# Altium footprint library dpfootprint.PcbLib: 90 footprints (part 2 of 6)
Each footprint in its own frame and in the unit in brackets; x right, y up, seen from the top. Pads: shape width x height; smd on the part's side, far side on the other; paste and mask are expansions set on the pad; w line width, h text height; cw(c..) or ccw(c..) is an arc to the next point about the centre after c.
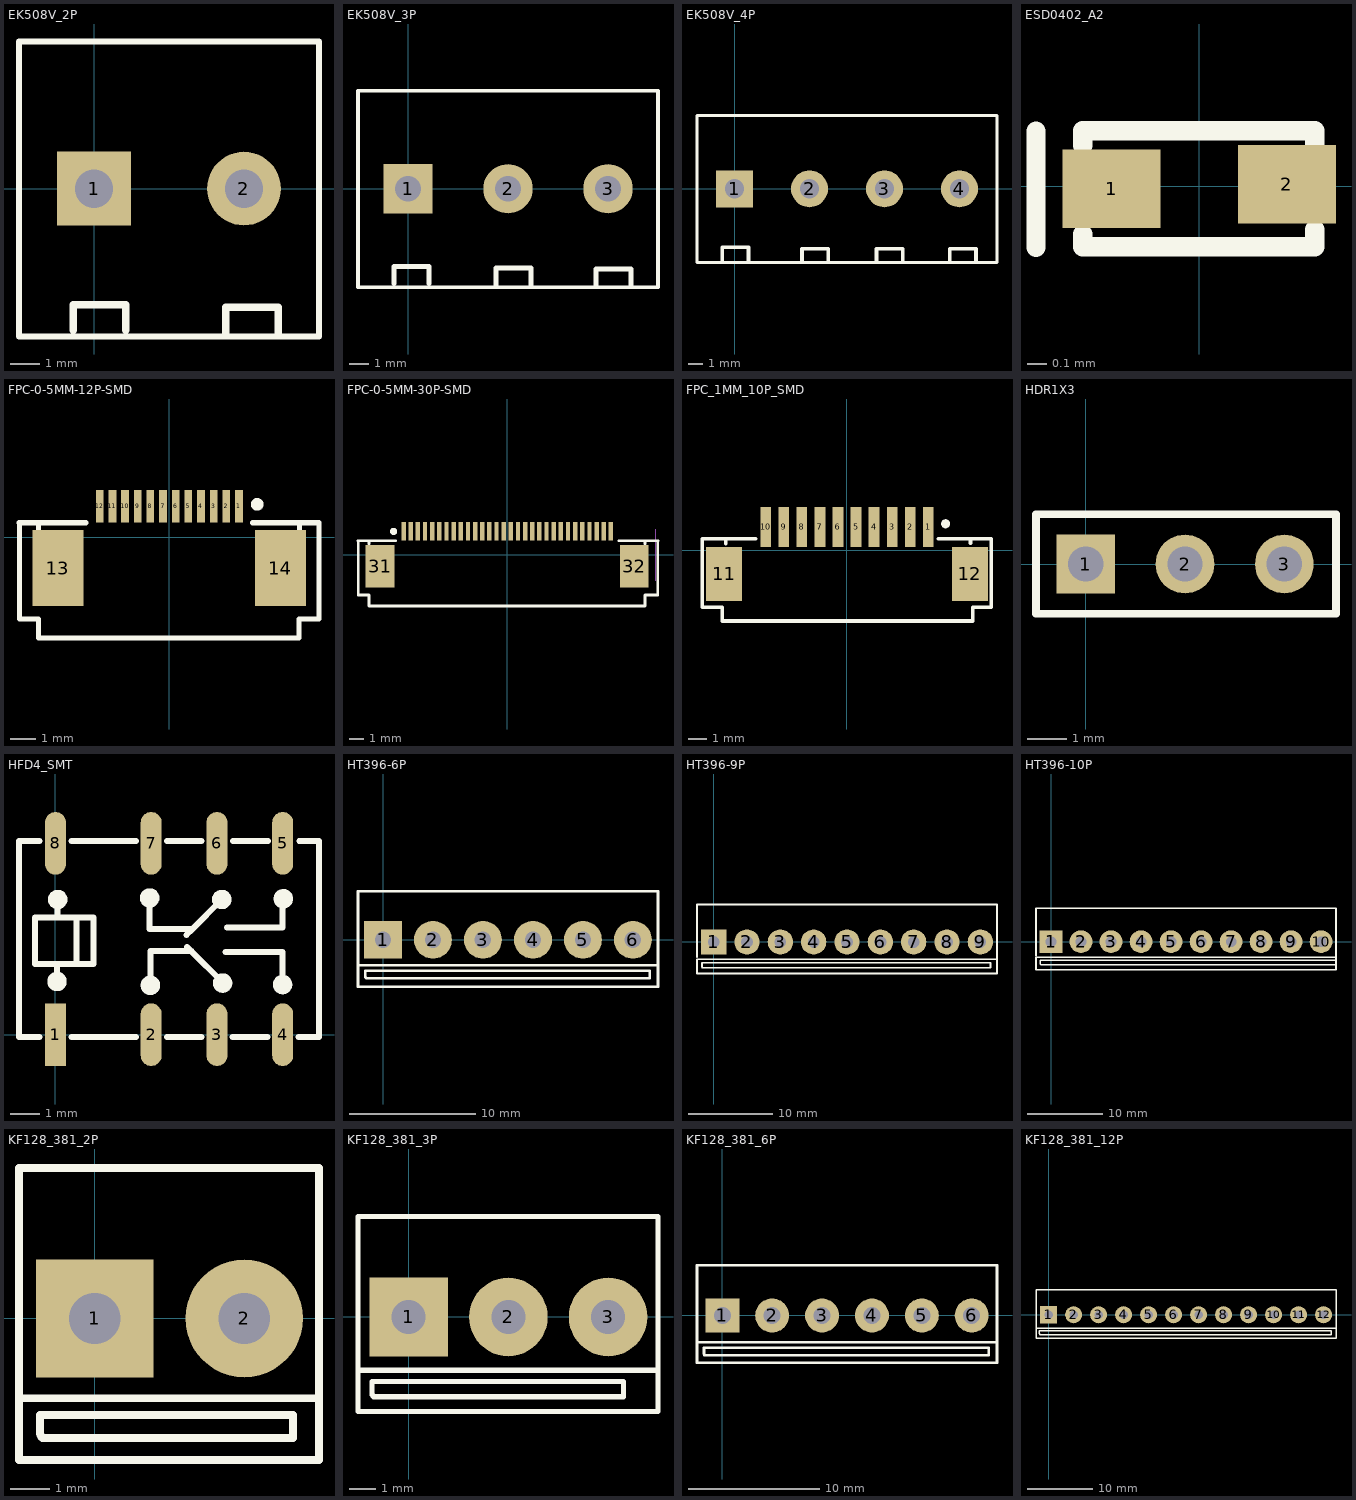
[diagram p1: the footprints below, top view; thin cyan lines are the x and y axes]

## EK508V_2P [mm]
pads (2):
  rect 2.5x2.5 hole 1.3: 1(0,0)
  round 2.5 hole 1.3: 2(5.08,0)
Top Overlay:
  lines w0.2: -2.54,-5.004 -2.54,4.978 7.62,4.978 7.62,-5.004 -2.54,-5.004
  lines w0.254: -0.711,-4.801 -0.711,-3.937 1.067,-3.937 1.067,-4.801 ; 4.47,-4.877 4.47,-4.013 6.248,-4.013 6.248,-4.877

## EK508V_3P [mm]
pads (3):
  rect 2.5x2.5 hole 1.3: 1(0,0)
  round 2.5 hole 1.3: 2(5.08,0) 3(10.16,0)
Top Overlay:
  lines w0.2: -2.54,-5.004 12.7,-5.004 12.7,4.978 -2.54,4.978 -2.54,-5.004
  lines w0.254: -0.711,-4.801 -0.711,-3.937 1.067,-3.937 1.067,-4.801 ; 4.47,-4.877 4.47,-4.013 6.248,-4.013 6.248,-4.877 ; 9.55,-4.928 9.55,-4.064 11.328,-4.064 11.328,-4.928

## EK508V_4P [mm]
pads (4):
  rect 2.5x2.5 hole 1.3: 1(0,0)
  round 2.5 hole 1.3: 2(5.08,0) 3(10.16,0) 4(15.24,0)
Top Overlay:
  lines w0.2: -2.54,-5.004 17.78,-5.004 17.78,4.978 -2.54,4.978 -2.54,-5.004
  lines w0.254: -0.838,-4.826 -0.838,-3.962 0.94,-3.962 0.94,-4.826 ; 4.572,-4.928 4.572,-4.064 6.35,-4.064 6.35,-4.928 ; 9.627,-4.928 9.627,-4.064 11.405,-4.064 11.405,-4.928 ; 14.58,-4.928 14.58,-4.064 16.358,-4.064 16.358,-4.928

## ESD0402_A2 [mil] "ESD0402_A2"
pads (2):
  rect 20x16 smd: 1(-17.85,-0.45) 2(17.84,0.46)
Top Overlay:
  lines w3.94: -33.24,-12.39 -33.24,11.23 ; -23.75,-9.75 -23.75,-12.26 23.49,-12.26 23.49,-8.75 ; -23.75,8.33 -23.75,11.36 23.49,11.36 23.49,8.33

## FPC-0-5MM-12P-SMD [mil]
pads (14):
  rect 12x51 smd: 1(108.5,48.03) 2(88.82,48.03) 3(69.13,48.03) 4(49.45,48.03) 5(29.76,48.03) 6(10.08,48.03) 7(-9.61,48.03) 8(-29.29,48.03) 9(-48.98,48.03) 10(-68.66,48.03) 11(-88.34,48.03) 12(-108.03,48.03)
  rect 78.74x118.11 smd: 13(-173.03,-48.03) 14(173.03,-48.03)
Top Overlay:
  circle w9.84: c137,51 r4.92
  lines w7.87: -203.03,13.03 -203.03,22.44 ; -129.68,22.44 -203.03,22.44 ; 130,22.44 228,22.44 ; 203,13.03 203,22.44 233,22.44 233,-5 233,-126.97 202,-126.97 202,-156.97 -203.03,-156.97 -203.03,-126.97 -208.03,-126.97 -233.03,-126.97 -233.03,21.85 -233.62,22.44 -203.03,22.44

## FPC-0-5MM-30P-SMD [mil] "FPC-0-5MM-30P-SMD"
pads (32):
  rect 12x51 smd: 1(-285,64.76) 2(-265.31,64.76) 3(-245.63,64.76) 4(-225.95,64.76) 5(-206.26,64.76) 6(-186.58,64.76) 7(-166.89,64.76) 8(-147.21,64.76) 9(-127.52,64.76) 10(-107.84,64.76) 11(-88.15,64.76) 12(-68.47,64.76) 13(-48.78,64.76) 14(-29.1,64.76) 15(-9.41,64.76) 16(10.27,64.76) 17(29.96,64.76) 18(49.64,64.76) 19(69.33,64.76) 20(89.01,64.76) 21(108.7,64.76) 22(128.38,64.76) 23(148.07,64.76) 24(167.75,64.76) 25(187.44,64.76) 26(207.12,64.76) 27(226.81,64.76) 28(246.49,64.76) 29(266.18,64.76) 30(285.86,64.76)
  rect 78.74x118.11 smd: 31(-350,-31.3) 32(350,-31.3)
Top Overlay:
  circle w9.84: c-312.56,64.76 r4.92
  lines w7.87: -380,29.76 -380,39.17 ; -306.65,39.17 -380,39.17 ; 307.52,39.17 380,39.17 ; 380,29.76 380,39.17 ; -380,39.17 -410.59,39.17 -410,38.58 -410,-110.24 -385,-110.24 -380,-110.24 -380,-140.24 380,-140.24 380,-110.24 415,-110.24 415,38.58 415.59,39.17 380,39.17
Mechanical 12:
  lines w1: 409.06,-70.67 409.06,70.67
Mechanical 13:
  lines w1: 409.06,-70.67 409.06,70.67

## FPC_1MM_10P_SMD [mm]
pads (12):
  rect 0.6x2.2 smd: 1(4.5,1.3) 2(3.5,1.3) 3(2.5,1.3) 4(1.5,1.3) 5(0.5,1.3) 6(-0.5,1.3) 7(-1.5,1.3) 8(-2.5,1.3) 9(-3.5,1.3) 10(-4.5,1.3)
  rect 2x3 smd: 11(-6.8,-1.3) 12(6.8,-1.3)
Top Overlay:
  circle w0.25: c5.461,1.473 r0.125
  lines w0.2: -6.706,0.381 -6.706,0.62 ; -5.05,0.65 -6.913,0.65 -8.001,0.65 -8.001,-3.145 -7.04,-3.145 -6.913,-3.145 -6.913,-3.907 6.96,-3.907 6.96,-3.145 7.976,-3.145 7.976,0.65 6.96,0.65 5.055,0.65 ; 6.833,0.406 6.833,0.645

## HDR1X3 [mm]
pads (3):
  rect 1.5x1.5 hole 0.9: 1(0,0)
  round 1.5 hole 0.9: 2(2.54,0) 3(5.08,0)
Top Overlay:
  lines w0.2: -1.27,-1.27 6.401,-1.27 6.401,1.27 -1.27,1.27 -1.27,-1.27

## HFD4_SMT [mm]
pads (8):
  rect 0.7x2.1 smd: 1(0,0)
  oval 0.7x2.1 smd: 2(3.2,0) 3(5.4,0) 4(7.6,0) 5(7.6,6.4) 6(5.4,6.4) 7(3.2,6.4) 8(0,6.4)
Top Overlay:
  circle w0.254: c0.076,4.521 r0.198
  circle w0.254: c0.051,1.778 r0.198
  circle w0.254: c7.62,4.547 r0.198
  circle w0.254: c5.563,4.521 r0.198
  circle w0.254: c3.15,4.572 r0.198
  circle w0.254: c7.595,1.676 r0.198
  circle w0.254: c5.588,1.727 r0.198
  circle w0.254: c3.175,1.651 r0.198
  lines w0.2: -0.533,-0.076 -1.219,-0.076 -1.219,6.477 -0.533,6.477 ; 0.051,1.778 0.051,2.337 ; 0.076,4.013 0.076,4.521 ; 0.533,-0.076 2.692,-0.076 ; 0.533,6.477 2.692,6.477 ; 0.711,2.362 0.711,3.912 ; 3.15,4.572 3.15,3.531 4.064,3.531 4.369,3.531 4.572,3.531 ; 3.175,1.651 3.175,2.794 4.547,2.794 ; 3.734,-0.076 4.877,-0.076 ; 3.734,6.477 4.877,6.477 ; 4.381,3.34 4.572,3.531 ; 4.407,2.934 4.547,2.794 ; 5.563,4.521 4.572,3.531 ; 5.588,1.753 4.547,2.794 ; 5.69,2.769 7.595,2.769 7.595,1.702 ; 5.74,3.581 7.595,3.581 7.595,4.648 ; 5.918,-0.076 7.087,-0.076 ; 5.944,6.477 7.112,6.477 ; 8.128,-0.076 8.814,-0.076 8.814,6.477 8.153,6.477 ; -0.686,2.362 -0.686,3.912 1.27,3.912 1.27,2.362 -0.686,2.362

## HT396-6P [mm]
pads (6):
  rect 3x3 / inner rect 2.286x2.286 / far side rect 3x3 hole 1.3: 1(0,0)
  round 3 / inner round 2.286 / far side round 3 hole 1.3: 2(3.96,0) 3(7.92,0) 4(11.887,0) 5(15.847,0) 6(19.807,0)
Top Overlay:
  lines w0.2: 21.742,-2.032 -1.981,-2.032 ; -1.981,-2.032 -1.981,-3.734 21.793,-3.734 21.793,3.861 -1.981,3.861 -1.981,-2.032 ; -1.397,-2.9 ccw(c-1.188,-2.9) -1.336,-3.048 21.133,-3.048 21.133,-2.464 -1.397,-2.464 -1.397,-2.9

## HT396-9P [mm] "HT396-9P"
pads (9):
  rect 3x3 / inner rect 2.286x2.286 / far side rect 3x3 hole 1.4: 1(0,0)
  round 3 / inner round 2.286 / far side round 3 hole 1.4: 2(3.96,0) 3(7.92,0) 4(11.887,0) 5(15.847,0) 6(19.807,0) 7(23.767,0) 8(27.727,0) 9(31.687,0)
Top Overlay:
  lines w0.2: -1.981,-1.829 -1.981,4.445 33.667,4.445 33.667,-3.734 25.753,-3.734 -1.981,-3.734 -1.981,-2.032 33.54,-2.032 ; -1.397,-2.9 ccw(c-1.188,-2.9) -1.336,-3.048 32.905,-3.048 32.905,-2.464 -1.397,-2.464 -1.397,-2.9

## HT396-10P [mm]
pads (10):
  rect 3x3 / inner rect 2.286x2.286 / far side rect 3x3 hole 1.4: 1(0,0)
  round 3 / inner round 2.286 / far side round 3 hole 1.4: 2(3.96,0) 3(7.92,0) 4(11.887,0) 5(15.847,0) 6(19.807,0) 7(23.767,0) 8(27.727,0) 9(31.687,0) 10(35.647,0)
Top Overlay:
  lines w0.2: -1.981,-1.829 -1.981,4.445 37.617,4.445 37.617,-3.734 25.753,-3.734 -1.981,-3.734 -1.981,-2.032 37.617,-2.032 ; -1.397,-2.9 ccw(c-1.188,-2.9) -1.336,-3.048 37.617,-3.048 37.617,-2.464 -1.397,-2.464 -1.397,-2.9

## KF128_381_2P [mm]
pads (2):
  rect 3x3 / inner rect 2.286x2.286 / far side rect 3x3 hole 1.3: 1(0,0)
  round 3 / inner round 2.286 / far side round 3 hole 1.3: 2(3.81,0)
Top Overlay:
  lines w0.2: -1.93,-1.981 -1.93,3.835 5.715,3.835 5.715,-3.607 -1.93,-3.607 -1.93,-2.032 5.69,-2.032 ; -1.397,-2.9 ccw(c-1.188,-2.9) -1.336,-3.048 5.055,-3.048 5.055,-2.464 -1.397,-2.464 -1.397,-2.9

## KF128_381_3P [mm]
pads (3):
  rect 3x3 / inner rect 2.286x2.286 / far side rect 3x3 hole 1.3: 1(0,0)
  round 3 / inner round 2.286 / far side round 3 hole 1.3: 2(3.81,0) 3(7.62,0)
Top Overlay:
  lines w0.2: -1.93,-1.981 -1.93,3.835 9.525,3.835 9.525,-3.607 -1.93,-3.607 -1.93,-2.032 9.525,-2.032 ; -1.397,-2.9 ccw(c-1.188,-2.9) -1.336,-3.048 8.204,-3.048 8.204,-2.464 -1.397,-2.464 -1.397,-2.9

## KF128_381_6P [mm]
pads (6):
  rect 2.6x2.6 hole 1.3: 1(0,0)
  round 2.6 hole 1.3: 2(3.81,0) 3(7.62,0) 4(11.43,0) 5(15.24,0) 6(19.05,0)
Top Overlay:
  lines w0.2: -1.93,-1.981 -1.93,3.835 20.98,3.835 20.98,-3.607 -1.93,-3.607 -1.93,-2.032 20.98,-2.032 ; -1.397,-2.9 ccw(c-1.188,-2.9) -1.336,-3.048 20.345,-3.048 20.345,-2.464 -1.397,-2.464 -1.397,-2.9

## KF128_381_12P [mm]
pads (12):
  rect 2.6x2.6 hole 1.3: 1(0,0)
  round 2.6 hole 1.3: 2(3.81,0) 3(7.62,0) 4(11.43,0) 5(15.24,0) 6(19.05,0) 7(22.86,0) 8(26.67,0) 9(30.48,0) 10(34.29,0) 11(38.1,0) 12(41.91,0)
Top Overlay:
  lines w0.2: -1.93,-1.981 -1.93,3.835 43.815,3.835 43.815,-3.607 -1.93,-3.607 -1.93,-2.032 43.815,-2.032 ; -1.397,-2.9 ccw(c-1.188,-2.9) -1.336,-3.048 43.053,-3.048 43.053,-2.464 -1.397,-2.464 -1.397,-2.9